# Altium integrated library ICs - Flash Memory.IntLib: 1 symbol
Pins are listed as number, name and electrical type; pins without a type are passive.

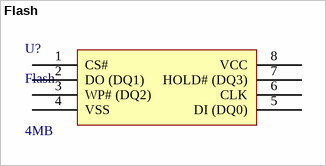
[diagram p0: symbol Flash]

## Flash
designator U?  Flash Memory: 4MB
FLASH FLASH 4MB (512K X 8) SPI/ QPI SOP-8 ROHS; Manufacturer: Shanghai Fudan Microelectronics; MFR.Part #: FM25Q04-SO-T-G; ComponentLink1Description: Datasheet; ComponentLink1URL: https://datasheet.lcsc.com/szlcsc/Shanghai-Fudan-Microelectronics-FM25Q04-SO-T-G_C193593.pdf; LCSC Part #: C193593; Package: SOP-8_3.9x4.9x1.27P
footprint PCBComponent_1
pins: 1 CS#, 2 DO (DQ1), 3 WP# (DQ2), 4 VSS, 5 DI (DQ0), 6 CLK, 7 HOLD# (DQ3), 8 VCC